# Altium schematic symbol library SMCJ13CA.SCHLIB: 3 symbols
Pins are listed as number, name and electrical type; pins without a type are passive.

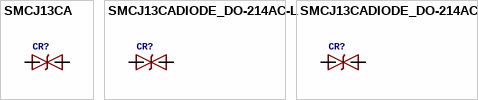
[diagram p0: symbols SMCJ13CA to SMCJ13CADIODE_DO-214AC-M]

## SMCJ13CA
designator CR?
GateName_1: A; SymbolName_1: DIODE; DeviceSetName: SMCJ13CA; VENDOR: Vishay; LibraryName: SMCJ13CA; Package: DIODE_DO-214AC; MANUFACTURER_PART_NUMBER: SMCJ13CA
footprint DIODE_DO-214AC
pins: 1 12, 2 21

## SMCJ13CADIODE_DO-214AC-L
designator CR?
GateName_1: A; SymbolName_1: DIODE; DeviceName: DIODE_DO-214AC-L; DeviceSetName: SMCJ13CA; VENDOR: Vishay; LibraryName: SMCJ13CA; Package: DIODE_DO-214AC-L; MANUFACTURER_PART_NUMBER: SMCJ13CA
footprint DIODE_DO-214AC-L
pins: 1 12, 2 21

## SMCJ13CADIODE_DO-214AC-M
designator CR?
GateName_1: A; SymbolName_1: DIODE; DeviceName: DIODE_DO-214AC-M; DeviceSetName: SMCJ13CA; VENDOR: Vishay; LibraryName: SMCJ13CA; Package: DIODE_DO-214AC-M; MANUFACTURER_PART_NUMBER: SMCJ13CA
footprint DIODE_DO-214AC-M
pins: 1 12, 2 21